# Altium integrated library Analog Devices Data Converters Digital-to-Analog Converters.IntLib: 2231 symbols (part 15 of 181)
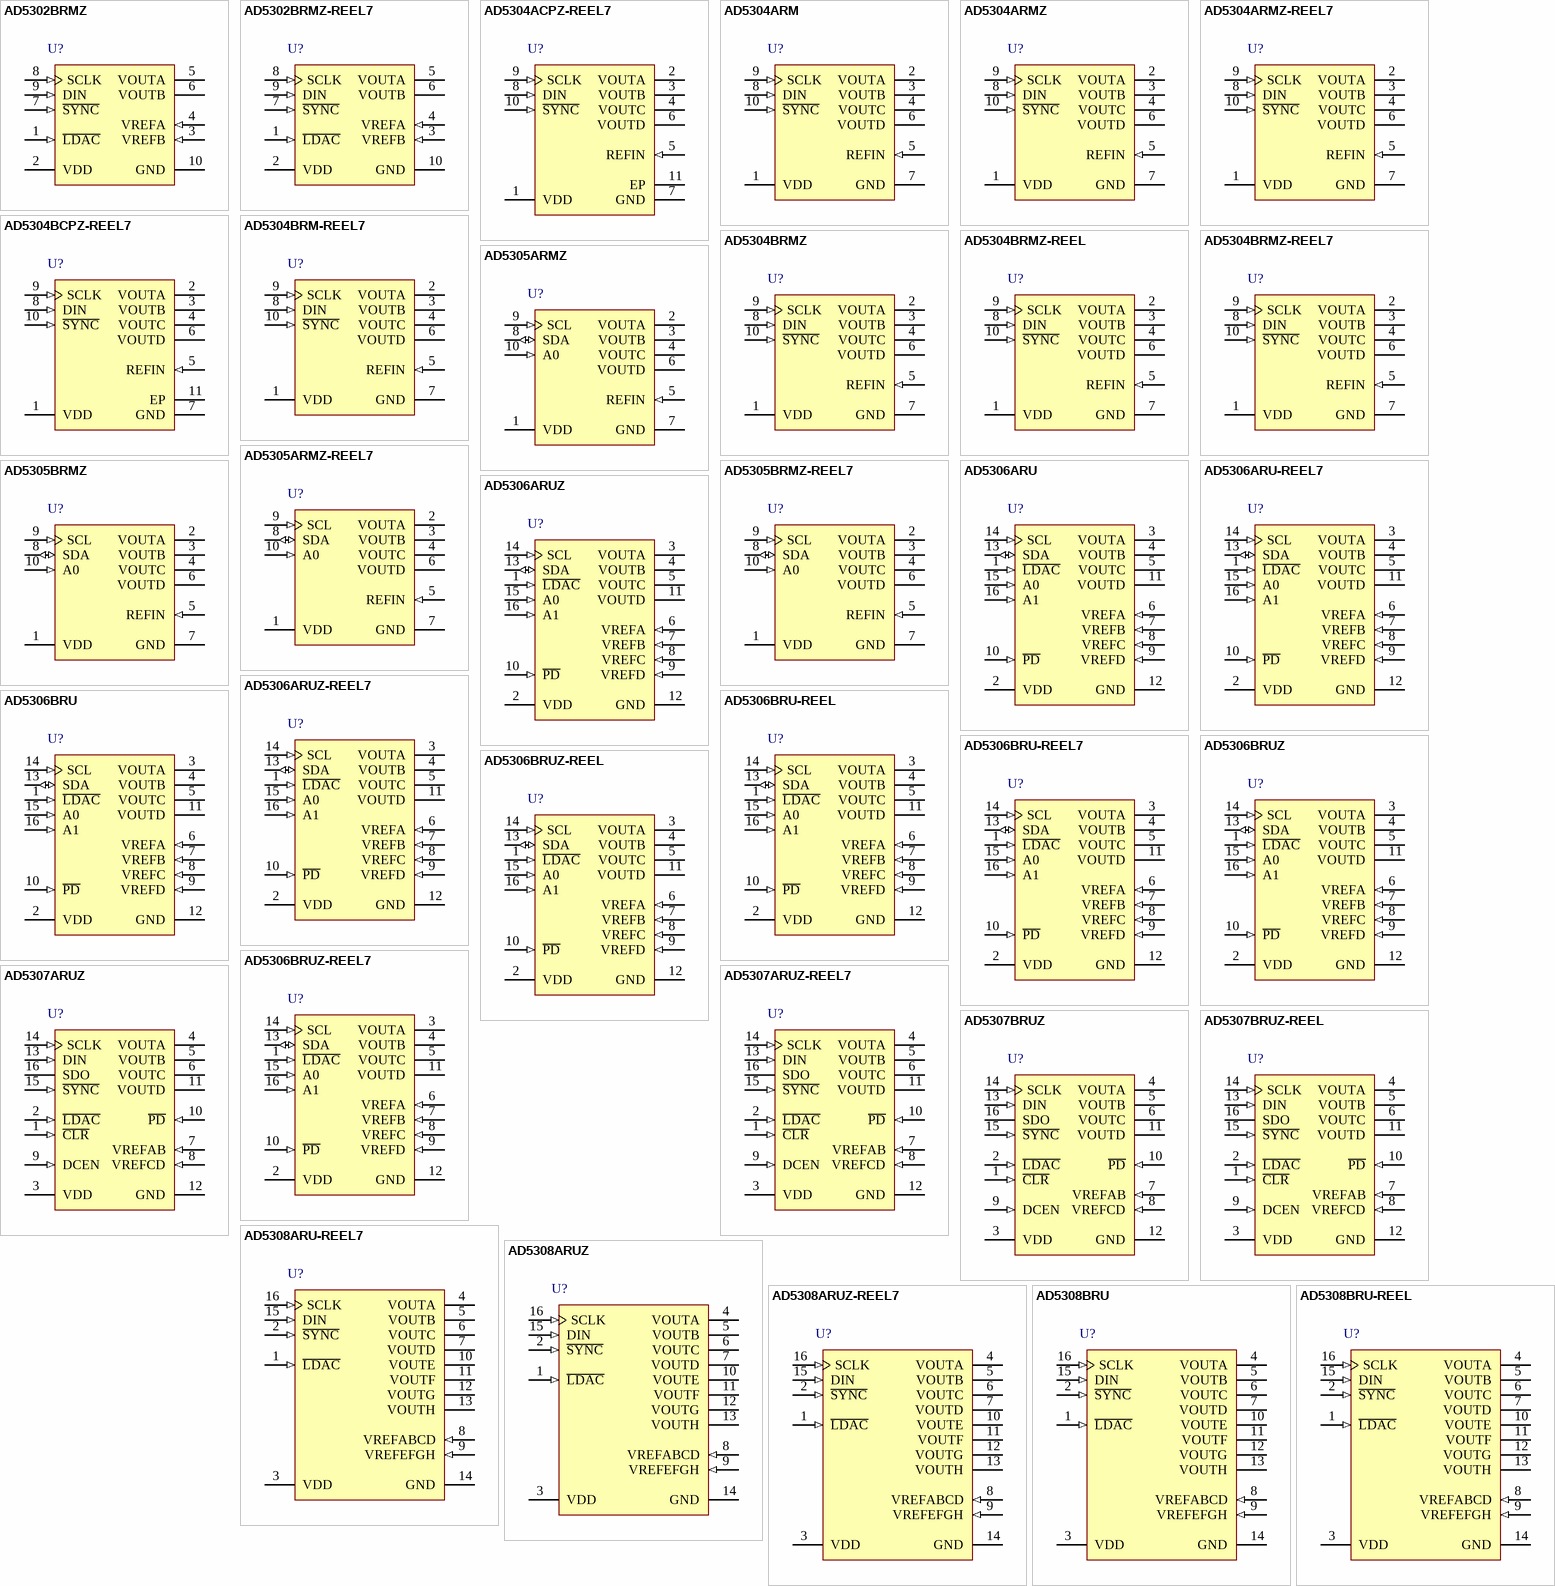
[diagram p128: symbols AD5302BRMZ to AD5308BRU-REEL]

## AD5308ARUZ-REEL7
designator U?
Octal 8-Bit Voltage Output Digital-to-Analog Converter, 2.5 to 5.5 V, -40 to +125 degC, RU-16, Pb-Free, Reel; Generic Part Number: AD5308; Manufacturer: Analog Devices; PartNumber: AD5308ARUZ-REEL7; # DAC Outputs: 8; Max V+: 5.5V; Op Pwr Diss: 5mW; Settling Time: 6µs; Single Supply: Yes; DatasheetVersion: Rev.F; PackageVersion: Nov-2002; PackageReference: RU-16; PackageDescription: 16-Lead Thin Shrink Small Outline Package [TSSOP]; Supplier 1: Digi-Key; Supplier Part Number 1: AD5308ARUZ-REEL7TR-ND; Supplier 2: Digi-Key; Supplier Part Number 2: AD5308ARUZ-REEL7CT-ND; Supplier 3: Digi-Key; Supplier Part Number 3: AD5308ARUZ-REEL7DKR-ND; Supplier 4: Newark; Supplier Part Number 4: 59K3884; Supplier 5: Mouser; Supplier Part Number 5: 584-AD5308ARUZ-R7; Packing: Reel; Resolution (Bits): 8; RoHS: Y; Mounting Technology: Surface Mount; Code_JEDEC: MO-153-AB; ComponentLink1Description: Manufacturer URL; ComponentLink1URL: http://www.analog.com/en/index.html; ComponentLink2Description: Datasheet; ComponentLink2URL: http://www.analog.com/static/imported-files/data_sheets/AD5308_5318_5328.pdf; ComponentLink3Description: Package Specification; ComponentLink3URL: http://www.analog.com/static/imported-files/packages/36244347913743854010197452789RU16.pdf; ComponentLink4Description: Product URL; ComponentLink4URL: http://www.analog.com/en/digital-to-analog-converters/da-converters/ad5308/products/product.html
footprint RU-16_N (TSOP, 16-Leads, Body 5x4.4mm, Pitch 0.65mm, IPC Medium Density)
footprint RU-16_L (TSOP, 16-Leads, Body 5x4.4mm, Pitch 0.65mm, IPC High Density)
footprint RU-16_M (TSOP, 16-Leads, Body 5x4.4mm, Pitch 0.65mm, IPC Low Density)
pins: 1 ~{LDAC} (in) "This active low control input transfers the contents of the input registers to their respective DAC registers. Pulsing this pin low allows any or all DAC registers to be updated if the input registers have new data. This (See Datasheet)", 2 ~{SYNC} (in) "Active Low Control Input. This is the frame synchronization signal for the input data. When S\Y\N\C\ goes low, it powers on the SCLK and DIN buffers and enables the input shift register. Data is transferred in on the falling (See Datasheet)", 3 VDD (power) "Power Supply Input. These parts can be operated from 2.5 V to 5.5 V, and the supply should be decoupled with a 10 uF capacitor in parallel with a 0.1 uF capacitor to GND.", 4 VOUTA (hiz) "Buffered Analog Output Voltage from DAC A. The output amplifier has rail-to-rail operation.", 5 VOUTB (hiz) "Buffered Analog Output Voltage from DAC B. The output amplifier has rail-to-rail operation.", 6 VOUTC (hiz) "Buffered Analog Output Voltage from DAC C. The output amplifier has rail-to-rail operation.", 7 VOUTD (hiz) "Buffered Analog Output Voltage from DAC D. The output amplifier has rail-to-rail operation.", 8 VREFABCD (in) "Reference Input Pin for DACs A, B, C, and D. It can be configured as a buffered, unbuffered, or VDD input to the four DACs, depending on the state of the BUF and VDD control bits. It has an input range from 0.25 V to VDD in (See Datasheet)", 9 VREFEFGH (in) "Reference Input Pin for DACs E, F, G, and H. It can be configured as a buffered, unbuffered, or VDD input to the four DACs, depending on the state of the BUF and VDD control bits. It has an input range from 0.25 V to VDD in (See Datasheet)", 10 VOUTE (hiz) "Buffered Analog Output Voltage from DAC E. The output amplifier has rail-to-rail operation.", 11 VOUTF (hiz) "Buffered Analog Output Voltage from DAC F. The output amplifier has rail-to-rail operation.", 12 VOUTG (hiz) "Buffered Analog Output Voltage from DAC G. The output amplifier has rail-to-rail operation.", 13 VOUTH (hiz) "Buffered Analog Output Voltage from DAC H. The output amplifier has rail-to-rail operation.", 14 GND (power) "Ground Reference Point for All Circuitry on the Part.", 15 DIN (in) "Serial Data Input. This device has a 16-bit shift register. Data is clocked into the register on the falling edge of the serial clock input. The DIN input buffer is powered down after each write cycle.", 16 SCLK (in) "Serial Clock Input. Data is clocked into the input shift register on the falling edge of the serial clock input. Data can be transferred at rates up to 30 MHz. The SCLK input buffer is powered down after each write cycle."

## AD5308BRU
designator U?
Octal 8-Bit Voltage Output Digital-to-Analog Converter, 2.5 to 5.5 V, -40 to +125 degC, RU-16, Tube; Generic Part Number: AD5308; Manufacturer: Analog Devices; PartNumber: AD5308BRU; # DAC Outputs: 8; Max V+: 5.5V; Op Pwr Diss: 5mW; Settling Time: 6µs; Single Supply: Yes; DatasheetVersion: Rev.F; PackageVersion: Nov-2002; PackageReference: RU-16; PackageDescription: 16-Lead Thin Shrink Small Outline Package [TSSOP]; Supplier 1: Digi-Key; Supplier Part Number 1: AD5308BRU-ND; Supplier 2: Mouser; Supplier Part Number 2: 584-AD5308BRU; Packing: Tube; Resolution (Bits): 8; RoHS: N; Mounting Technology: Surface Mount; Code_JEDEC: MO-153-AB; ComponentLink1Description: Manufacturer URL; ComponentLink1URL: http://www.analog.com/en/index.html; ComponentLink2Description: Datasheet; ComponentLink2URL: http://www.analog.com/static/imported-files/data_sheets/AD5308_5318_5328.pdf; ComponentLink3Description: Package Specification; ComponentLink3URL: http://www.analog.com/static/imported-files/packages/36244347913743854010197452789RU16.pdf; ComponentLink4Description: Product URL; ComponentLink4URL: http://www.analog.com/en/digital-to-analog-converters/da-converters/ad5308/products/product.html
footprint RU-16_N (TSOP, 16-Leads, Body 5x4.4mm, Pitch 0.65mm, IPC Medium Density)
footprint RU-16_L (TSOP, 16-Leads, Body 5x4.4mm, Pitch 0.65mm, IPC High Density)
footprint RU-16_M (TSOP, 16-Leads, Body 5x4.4mm, Pitch 0.65mm, IPC Low Density)
pins: 1 ~{LDAC} (in) "This active low control input transfers the contents of the input registers to their respective DAC registers. Pulsing this pin low allows any or all DAC registers to be updated if the input registers have new data. This (See Datasheet)", 2 ~{SYNC} (in) "Active Low Control Input. This is the frame synchronization signal for the input data. When S\Y\N\C\ goes low, it powers on the SCLK and DIN buffers and enables the input shift register. Data is transferred in on the falling (See Datasheet)", 3 VDD (power) "Power Supply Input. These parts can be operated from 2.5 V to 5.5 V, and the supply should be decoupled with a 10 uF capacitor in parallel with a 0.1 uF capacitor to GND.", 4 VOUTA (hiz) "Buffered Analog Output Voltage from DAC A. The output amplifier has rail-to-rail operation.", 5 VOUTB (hiz) "Buffered Analog Output Voltage from DAC B. The output amplifier has rail-to-rail operation.", 6 VOUTC (hiz) "Buffered Analog Output Voltage from DAC C. The output amplifier has rail-to-rail operation.", 7 VOUTD (hiz) "Buffered Analog Output Voltage from DAC D. The output amplifier has rail-to-rail operation.", 8 VREFABCD (in) "Reference Input Pin for DACs A, B, C, and D. It can be configured as a buffered, unbuffered, or VDD input to the four DACs, depending on the state of the BUF and VDD control bits. It has an input range from 0.25 V to VDD in (See Datasheet)", 9 VREFEFGH (in) "Reference Input Pin for DACs E, F, G, and H. It can be configured as a buffered, unbuffered, or VDD input to the four DACs, depending on the state of the BUF and VDD control bits. It has an input range from 0.25 V to VDD in (See Datasheet)", 10 VOUTE (hiz) "Buffered Analog Output Voltage from DAC E. The output amplifier has rail-to-rail operation.", 11 VOUTF (hiz) "Buffered Analog Output Voltage from DAC F. The output amplifier has rail-to-rail operation.", 12 VOUTG (hiz) "Buffered Analog Output Voltage from DAC G. The output amplifier has rail-to-rail operation.", 13 VOUTH (hiz) "Buffered Analog Output Voltage from DAC H. The output amplifier has rail-to-rail operation.", 14 GND (power) "Ground Reference Point for All Circuitry on the Part.", 15 DIN (in) "Serial Data Input. This device has a 16-bit shift register. Data is clocked into the register on the falling edge of the serial clock input. The DIN input buffer is powered down after each write cycle.", 16 SCLK (in) "Serial Clock Input. Data is clocked into the input shift register on the falling edge of the serial clock input. Data can be transferred at rates up to 30 MHz. The SCLK input buffer is powered down after each write cycle."

## AD5308BRU-REEL
designator U?
Octal 8-Bit Voltage Output Digital-to-Analog Converter, 2.5 to 5.5 V, -40 to +125 degC, RU-16, Reel; Generic Part Number: AD5308; Manufacturer: Analog Devices; PartNumber: AD5308BRU-REEL; # DAC Outputs: 8; Max V+: 5.5V; Op Pwr Diss: 5mW; Settling Time: 6µs; Single Supply: Yes; DatasheetVersion: Rev.F; PackageVersion: Nov-2002; PackageReference: RU-16; PackageDescription: 16-Lead Thin Shrink Small Outline Package [TSSOP]; Supplier 1: Digi-Key; Supplier Part Number 1: AD5308BRU-REEL-ND; Supplier 2: Mouser; Supplier Part Number 2: 584-AD5308BRU-R; Packing: Reel; Resolution (Bits): 8; RoHS: N; Mounting Technology: Surface Mount; Code_JEDEC: MO-153-AB; ComponentLink1Description: Manufacturer URL; ComponentLink1URL: http://www.analog.com/en/index.html; ComponentLink2Description: Datasheet; ComponentLink2URL: http://www.analog.com/static/imported-files/data_sheets/AD5308_5318_5328.pdf; ComponentLink3Description: Package Specification; ComponentLink3URL: http://www.analog.com/static/imported-files/packages/36244347913743854010197452789RU16.pdf; ComponentLink4Description: Product URL; ComponentLink4URL: http://www.analog.com/en/digital-to-analog-converters/da-converters/ad5308/products/product.html
footprint RU-16_N (TSOP, 16-Leads, Body 5x4.4mm, Pitch 0.65mm, IPC Medium Density)
footprint RU-16_L (TSOP, 16-Leads, Body 5x4.4mm, Pitch 0.65mm, IPC High Density)
footprint RU-16_M (TSOP, 16-Leads, Body 5x4.4mm, Pitch 0.65mm, IPC Low Density)
pins: 1 ~{LDAC} (in) "This active low control input transfers the contents of the input registers to their respective DAC registers. Pulsing this pin low allows any or all DAC registers to be updated if the input registers have new data. This (See Datasheet)", 2 ~{SYNC} (in) "Active Low Control Input. This is the frame synchronization signal for the input data. When S\Y\N\C\ goes low, it powers on the SCLK and DIN buffers and enables the input shift register. Data is transferred in on the falling (See Datasheet)", 3 VDD (power) "Power Supply Input. These parts can be operated from 2.5 V to 5.5 V, and the supply should be decoupled with a 10 uF capacitor in parallel with a 0.1 uF capacitor to GND.", 4 VOUTA (hiz) "Buffered Analog Output Voltage from DAC A. The output amplifier has rail-to-rail operation.", 5 VOUTB (hiz) "Buffered Analog Output Voltage from DAC B. The output amplifier has rail-to-rail operation.", 6 VOUTC (hiz) "Buffered Analog Output Voltage from DAC C. The output amplifier has rail-to-rail operation.", 7 VOUTD (hiz) "Buffered Analog Output Voltage from DAC D. The output amplifier has rail-to-rail operation.", 8 VREFABCD (in) "Reference Input Pin for DACs A, B, C, and D. It can be configured as a buffered, unbuffered, or VDD input to the four DACs, depending on the state of the BUF and VDD control bits. It has an input range from 0.25 V to VDD in (See Datasheet)", 9 VREFEFGH (in) "Reference Input Pin for DACs E, F, G, and H. It can be configured as a buffered, unbuffered, or VDD input to the four DACs, depending on the state of the BUF and VDD control bits. It has an input range from 0.25 V to VDD in (See Datasheet)", 10 VOUTE (hiz) "Buffered Analog Output Voltage from DAC E. The output amplifier has rail-to-rail operation.", 11 VOUTF (hiz) "Buffered Analog Output Voltage from DAC F. The output amplifier has rail-to-rail operation.", 12 VOUTG (hiz) "Buffered Analog Output Voltage from DAC G. The output amplifier has rail-to-rail operation.", 13 VOUTH (hiz) "Buffered Analog Output Voltage from DAC H. The output amplifier has rail-to-rail operation.", 14 GND (power) "Ground Reference Point for All Circuitry on the Part.", 15 DIN (in) "Serial Data Input. This device has a 16-bit shift register. Data is clocked into the register on the falling edge of the serial clock input. The DIN input buffer is powered down after each write cycle.", 16 SCLK (in) "Serial Clock Input. Data is clocked into the input shift register on the falling edge of the serial clock input. Data can be transferred at rates up to 30 MHz. The SCLK input buffer is powered down after each write cycle."

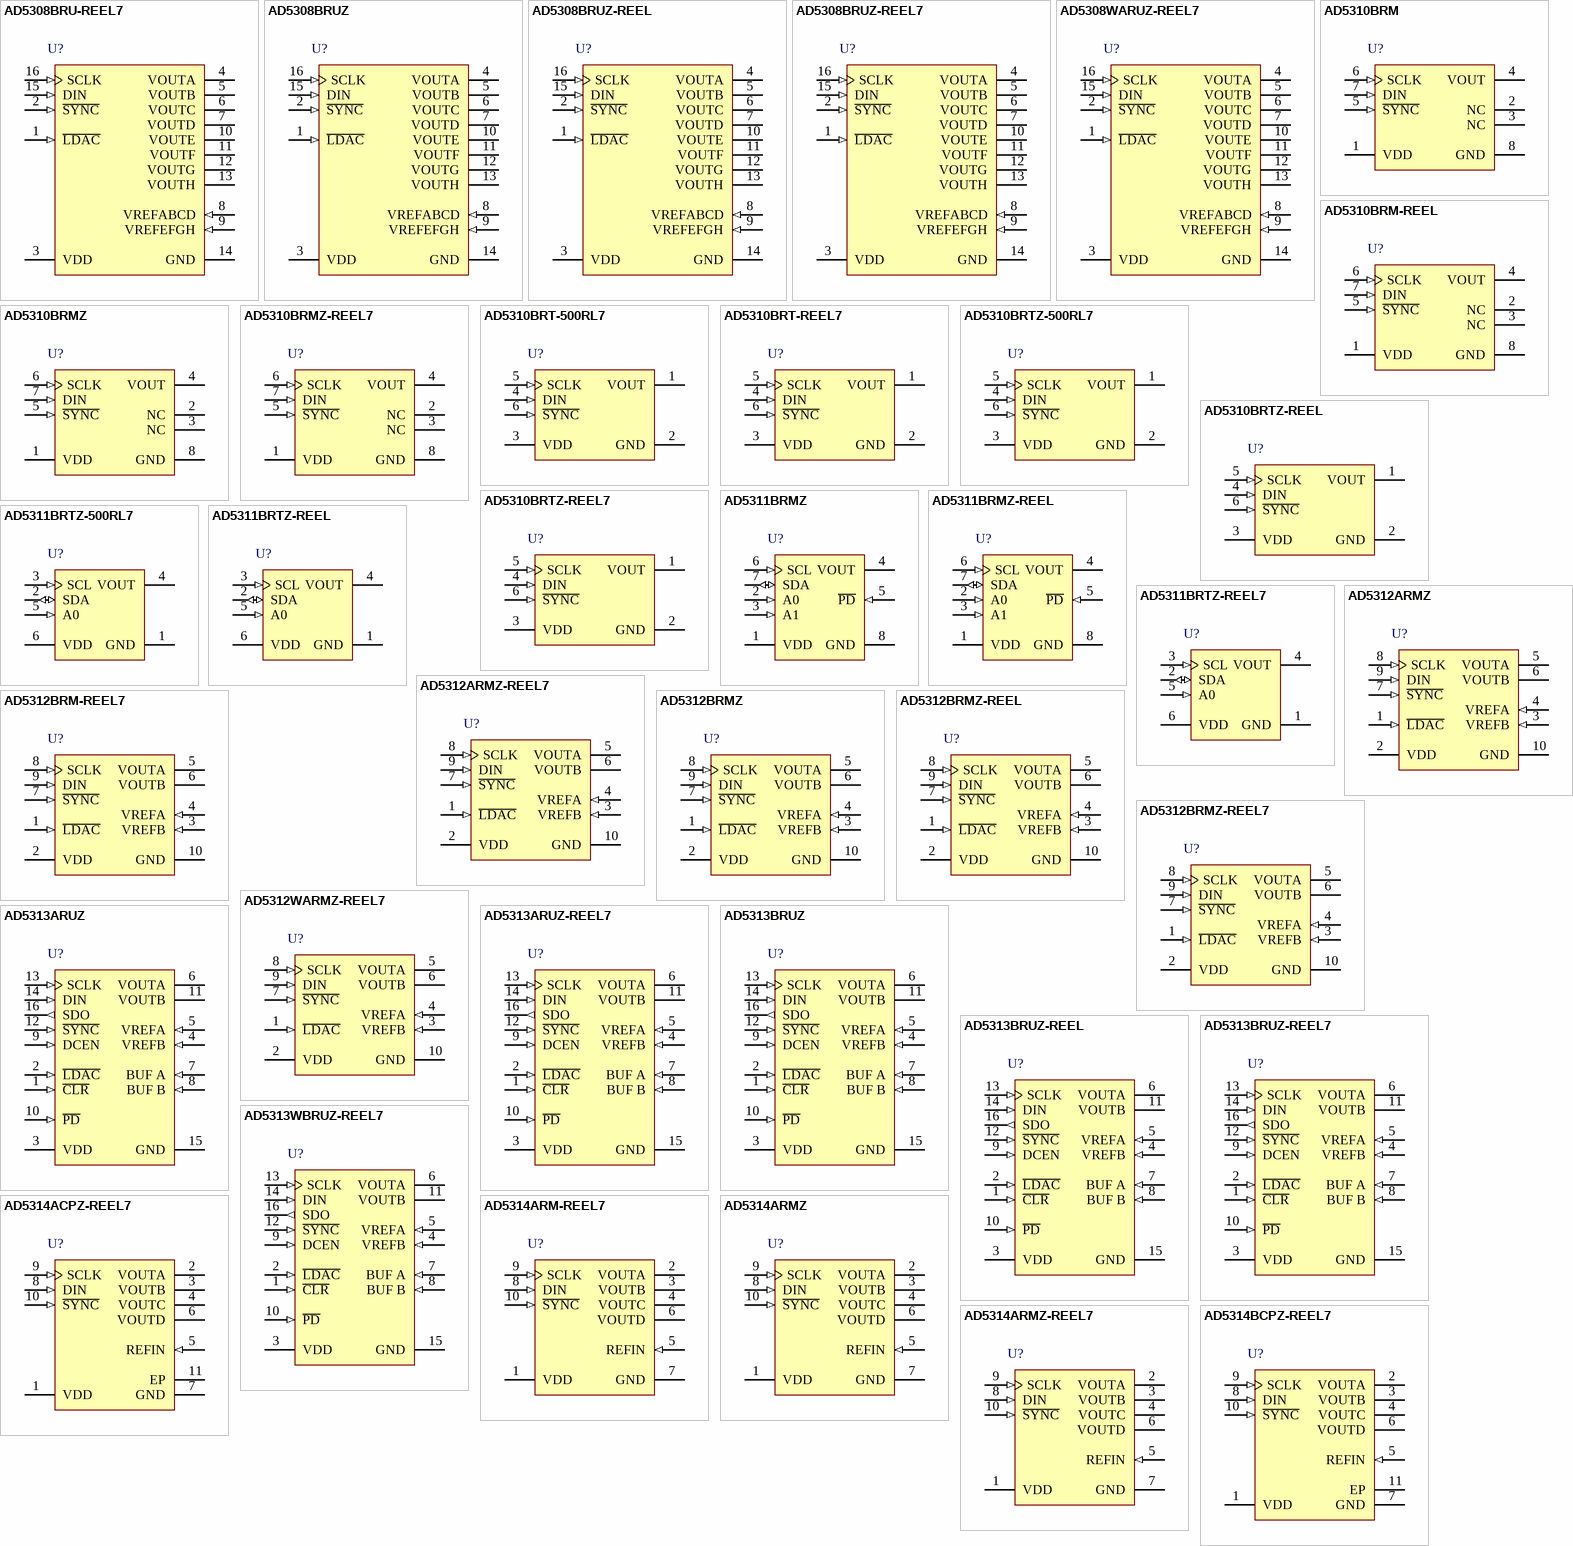
[diagram p11: symbols AD5308BRU-REEL7 to AD5314BCPZ-REEL7]

## AD5308BRU-REEL7
designator U?
Octal 8-Bit Voltage Output Digital-to-Analog Converter, 2.5 to 5.5 V, -40 to +125 degC, RU-16, Reel; Generic Part Number: AD5308; Manufacturer: Analog Devices; PartNumber: AD5308BRU-REEL7; # DAC Outputs: 8; Max V+: 5.5V; Op Pwr Diss: 5mW; Settling Time: 6µs; Single Supply: Yes; DatasheetVersion: Rev.F; PackageVersion: Nov-2002; PackageReference: RU-16; PackageDescription: 16-Lead Thin Shrink Small Outline Package [TSSOP]; Supplier 1: Digi-Key; Supplier Part Number 1: AD5308BRU-REEL7-ND; Supplier 2: Mouser; Supplier Part Number 2: 584-AD5308BRU-R7; Packing: Reel; Resolution (Bits): 8; RoHS: N; Mounting Technology: Surface Mount; Code_JEDEC: MO-153-AB; ComponentLink1Description: Manufacturer URL; ComponentLink1URL: http://www.analog.com/en/index.html; ComponentLink2Description: Datasheet; ComponentLink2URL: http://www.analog.com/static/imported-files/data_sheets/AD5308_5318_5328.pdf; ComponentLink3Description: Package Specification; ComponentLink3URL: http://www.analog.com/static/imported-files/packages/36244347913743854010197452789RU16.pdf; ComponentLink4Description: Product URL; ComponentLink4URL: http://www.analog.com/en/digital-to-analog-converters/da-converters/ad5308/products/product.html
footprint RU-16_N (TSOP, 16-Leads, Body 5x4.4mm, Pitch 0.65mm, IPC Medium Density)
footprint RU-16_L (TSOP, 16-Leads, Body 5x4.4mm, Pitch 0.65mm, IPC High Density)
footprint RU-16_M (TSOP, 16-Leads, Body 5x4.4mm, Pitch 0.65mm, IPC Low Density)
pins: 1 ~{LDAC} (in) "This active low control input transfers the contents of the input registers to their respective DAC registers. Pulsing this pin low allows any or all DAC registers to be updated if the input registers have new data. This (See Datasheet)", 2 ~{SYNC} (in) "Active Low Control Input. This is the frame synchronization signal for the input data. When S\Y\N\C\ goes low, it powers on the SCLK and DIN buffers and enables the input shift register. Data is transferred in on the falling (See Datasheet)", 3 VDD (power) "Power Supply Input. These parts can be operated from 2.5 V to 5.5 V, and the supply should be decoupled with a 10 uF capacitor in parallel with a 0.1 uF capacitor to GND.", 4 VOUTA (hiz) "Buffered Analog Output Voltage from DAC A. The output amplifier has rail-to-rail operation.", 5 VOUTB (hiz) "Buffered Analog Output Voltage from DAC B. The output amplifier has rail-to-rail operation.", 6 VOUTC (hiz) "Buffered Analog Output Voltage from DAC C. The output amplifier has rail-to-rail operation.", 7 VOUTD (hiz) "Buffered Analog Output Voltage from DAC D. The output amplifier has rail-to-rail operation.", 8 VREFABCD (in) "Reference Input Pin for DACs A, B, C, and D. It can be configured as a buffered, unbuffered, or VDD input to the four DACs, depending on the state of the BUF and VDD control bits. It has an input range from 0.25 V to VDD in (See Datasheet)", 9 VREFEFGH (in) "Reference Input Pin for DACs E, F, G, and H. It can be configured as a buffered, unbuffered, or VDD input to the four DACs, depending on the state of the BUF and VDD control bits. It has an input range from 0.25 V to VDD in (See Datasheet)", 10 VOUTE (hiz) "Buffered Analog Output Voltage from DAC E. The output amplifier has rail-to-rail operation.", 11 VOUTF (hiz) "Buffered Analog Output Voltage from DAC F. The output amplifier has rail-to-rail operation.", 12 VOUTG (hiz) "Buffered Analog Output Voltage from DAC G. The output amplifier has rail-to-rail operation.", 13 VOUTH (hiz) "Buffered Analog Output Voltage from DAC H. The output amplifier has rail-to-rail operation.", 14 GND (power) "Ground Reference Point for All Circuitry on the Part.", 15 DIN (in) "Serial Data Input. This device has a 16-bit shift register. Data is clocked into the register on the falling edge of the serial clock input. The DIN input buffer is powered down after each write cycle.", 16 SCLK (in) "Serial Clock Input. Data is clocked into the input shift register on the falling edge of the serial clock input. Data can be transferred at rates up to 30 MHz. The SCLK input buffer is powered down after each write cycle."

## AD5308BRUZ
designator U?
Octal 8-Bit Voltage Output Digital-to-Analog Converter, 2.5 to 5.5 V, -40 to +125 degC, RU-16, Pb-Free, Tube; Generic Part Number: AD5308; Manufacturer: Analog Devices; PartNumber: AD5308BRUZ; # DAC Outputs: 8; Max V+: 5.5V; Op Pwr Diss: 5mW; Settling Time: 6µs; Single Supply: Yes; DatasheetVersion: Rev.F; PackageVersion: Nov-2002; PackageReference: RU-16; PackageDescription: 16-Lead Thin Shrink Small Outline Package [TSSOP]; Supplier 1: Digi-Key; Supplier Part Number 1: AD5308BRUZ-ND; Supplier 2: Farnell; Supplier Part Number 2: 9426337; Supplier 3: Newark; Supplier Part Number 3: 19M0804; Supplier 4: Mouser; Supplier Part Number 4: 584-AD5308BRUZ; Packing: Tube; Resolution (Bits): 8; RoHS: Y; Mounting Technology: Surface Mount; Code_JEDEC: MO-153-AB; ComponentLink1Description: Manufacturer URL; ComponentLink1URL: http://www.analog.com/en/index.html; ComponentLink2Description: Datasheet; ComponentLink2URL: http://www.analog.com/static/imported-files/data_sheets/AD5308_5318_5328.pdf; ComponentLink3Description: Package Specification; ComponentLink3URL: http://www.analog.com/static/imported-files/packages/36244347913743854010197452789RU16.pdf; ComponentLink4Description: Product URL; ComponentLink4URL: http://www.analog.com/en/digital-to-analog-converters/da-converters/ad5308/products/product.html
footprint RU-16_N (TSOP, 16-Leads, Body 5x4.4mm, Pitch 0.65mm, IPC Medium Density)
footprint RU-16_L (TSOP, 16-Leads, Body 5x4.4mm, Pitch 0.65mm, IPC High Density)
footprint RU-16_M (TSOP, 16-Leads, Body 5x4.4mm, Pitch 0.65mm, IPC Low Density)
pins: 1 ~{LDAC} (in) "This active low control input transfers the contents of the input registers to their respective DAC registers. Pulsing this pin low allows any or all DAC registers to be updated if the input registers have new data. This (See Datasheet)", 2 ~{SYNC} (in) "Active Low Control Input. This is the frame synchronization signal for the input data. When S\Y\N\C\ goes low, it powers on the SCLK and DIN buffers and enables the input shift register. Data is transferred in on the falling (See Datasheet)", 3 VDD (power) "Power Supply Input. These parts can be operated from 2.5 V to 5.5 V, and the supply should be decoupled with a 10 uF capacitor in parallel with a 0.1 uF capacitor to GND.", 4 VOUTA (hiz) "Buffered Analog Output Voltage from DAC A. The output amplifier has rail-to-rail operation.", 5 VOUTB (hiz) "Buffered Analog Output Voltage from DAC B. The output amplifier has rail-to-rail operation.", 6 VOUTC (hiz) "Buffered Analog Output Voltage from DAC C. The output amplifier has rail-to-rail operation.", 7 VOUTD (hiz) "Buffered Analog Output Voltage from DAC D. The output amplifier has rail-to-rail operation.", 8 VREFABCD (in) "Reference Input Pin for DACs A, B, C, and D. It can be configured as a buffered, unbuffered, or VDD input to the four DACs, depending on the state of the BUF and VDD control bits. It has an input range from 0.25 V to VDD in (See Datasheet)", 9 VREFEFGH (in) "Reference Input Pin for DACs E, F, G, and H. It can be configured as a buffered, unbuffered, or VDD input to the four DACs, depending on the state of the BUF and VDD control bits. It has an input range from 0.25 V to VDD in (See Datasheet)", 10 VOUTE (hiz) "Buffered Analog Output Voltage from DAC E. The output amplifier has rail-to-rail operation.", 11 VOUTF (hiz) "Buffered Analog Output Voltage from DAC F. The output amplifier has rail-to-rail operation.", 12 VOUTG (hiz) "Buffered Analog Output Voltage from DAC G. The output amplifier has rail-to-rail operation.", 13 VOUTH (hiz) "Buffered Analog Output Voltage from DAC H. The output amplifier has rail-to-rail operation.", 14 GND (power) "Ground Reference Point for All Circuitry on the Part.", 15 DIN (in) "Serial Data Input. This device has a 16-bit shift register. Data is clocked into the register on the falling edge of the serial clock input. The DIN input buffer is powered down after each write cycle.", 16 SCLK (in) "Serial Clock Input. Data is clocked into the input shift register on the falling edge of the serial clock input. Data can be transferred at rates up to 30 MHz. The SCLK input buffer is powered down after each write cycle."

## AD5308BRUZ-REEL
designator U?
Octal 8-Bit Voltage Output Digital-to-Analog Converter, 2.5 to 5.5 V, -40 to +125 degC, RU-16, Pb-Free, Reel; Generic Part Number: AD5308; Manufacturer: Analog Devices; PartNumber: AD5308BRUZ-REEL; # DAC Outputs: 8; Max V+: 5.5V; Op Pwr Diss: 5mW; Settling Time: 6µs; Single Supply: Yes; DatasheetVersion: Rev.F; PackageVersion: Nov-2002; PackageReference: RU-16; PackageDescription: 16-Lead Thin Shrink Small Outline Package [TSSOP]; Supplier 1: Digi-Key; Supplier Part Number 1: AD5308BRUZ-REEL-ND; Supplier 2: Mouser; Supplier Part Number 2: 584-AD5308BRUZ-R; Packing: Reel; Resolution (Bits): 8; RoHS: Y; Mounting Technology: Surface Mount; Code_JEDEC: MO-153-AB; ComponentLink1Description: Manufacturer URL; ComponentLink1URL: http://www.analog.com/en/index.html; ComponentLink2Description: Datasheet; ComponentLink2URL: http://www.analog.com/static/imported-files/data_sheets/AD5308_5318_5328.pdf; ComponentLink3Description: Package Specification; ComponentLink3URL: http://www.analog.com/static/imported-files/packages/36244347913743854010197452789RU16.pdf; ComponentLink4Description: Product URL; ComponentLink4URL: http://www.analog.com/en/digital-to-analog-converters/da-converters/ad5308/products/product.html
footprint RU-16_N (TSOP, 16-Leads, Body 5x4.4mm, Pitch 0.65mm, IPC Medium Density)
footprint RU-16_L (TSOP, 16-Leads, Body 5x4.4mm, Pitch 0.65mm, IPC High Density)
footprint RU-16_M (TSOP, 16-Leads, Body 5x4.4mm, Pitch 0.65mm, IPC Low Density)
pins: 1 ~{LDAC} (in) "This active low control input transfers the contents of the input registers to their respective DAC registers. Pulsing this pin low allows any or all DAC registers to be updated if the input registers have new data. This (See Datasheet)", 2 ~{SYNC} (in) "Active Low Control Input. This is the frame synchronization signal for the input data. When S\Y\N\C\ goes low, it powers on the SCLK and DIN buffers and enables the input shift register. Data is transferred in on the falling (See Datasheet)", 3 VDD (power) "Power Supply Input. These parts can be operated from 2.5 V to 5.5 V, and the supply should be decoupled with a 10 uF capacitor in parallel with a 0.1 uF capacitor to GND.", 4 VOUTA (hiz) "Buffered Analog Output Voltage from DAC A. The output amplifier has rail-to-rail operation.", 5 VOUTB (hiz) "Buffered Analog Output Voltage from DAC B. The output amplifier has rail-to-rail operation.", 6 VOUTC (hiz) "Buffered Analog Output Voltage from DAC C. The output amplifier has rail-to-rail operation.", 7 VOUTD (hiz) "Buffered Analog Output Voltage from DAC D. The output amplifier has rail-to-rail operation.", 8 VREFABCD (in) "Reference Input Pin for DACs A, B, C, and D. It can be configured as a buffered, unbuffered, or VDD input to the four DACs, depending on the state of the BUF and VDD control bits. It has an input range from 0.25 V to VDD in (See Datasheet)", 9 VREFEFGH (in) "Reference Input Pin for DACs E, F, G, and H. It can be configured as a buffered, unbuffered, or VDD input to the four DACs, depending on the state of the BUF and VDD control bits. It has an input range from 0.25 V to VDD in (See Datasheet)", 10 VOUTE (hiz) "Buffered Analog Output Voltage from DAC E. The output amplifier has rail-to-rail operation.", 11 VOUTF (hiz) "Buffered Analog Output Voltage from DAC F. The output amplifier has rail-to-rail operation.", 12 VOUTG (hiz) "Buffered Analog Output Voltage from DAC G. The output amplifier has rail-to-rail operation.", 13 VOUTH (hiz) "Buffered Analog Output Voltage from DAC H. The output amplifier has rail-to-rail operation.", 14 GND (power) "Ground Reference Point for All Circuitry on the Part.", 15 DIN (in) "Serial Data Input. This device has a 16-bit shift register. Data is clocked into the register on the falling edge of the serial clock input. The DIN input buffer is powered down after each write cycle.", 16 SCLK (in) "Serial Clock Input. Data is clocked into the input shift register on the falling edge of the serial clock input. Data can be transferred at rates up to 30 MHz. The SCLK input buffer is powered down after each write cycle."

## AD5308BRUZ-REEL7
designator U?
Octal 8-Bit Voltage Output Digital-to-Analog Converter, 2.5 to 5.5 V, -40 to +125 degC, RU-16, Pb-Free, Reel; Generic Part Number: AD5308; Manufacturer: Analog Devices; PartNumber: AD5308BRUZ-REEL7; # DAC Outputs: 8; Max V+: 5.5V; Op Pwr Diss: 5mW; Settling Time: 6µs; Single Supply: Yes; DatasheetVersion: Rev.F; PackageVersion: Nov-2002; PackageReference: RU-16; PackageDescription: 16-Lead Thin Shrink Small Outline Package [TSSOP]; Supplier 1: Digi-Key; Supplier Part Number 1: AD5308BRUZ-REEL7-ND; Supplier 2: Newark; Supplier Part Number 2: 12M8511; Supplier 3: Mouser; Supplier Part Number 3: 584-AD5308BRUZ-R7; Packing: Reel; Resolution (Bits): 8; RoHS: Y; Mounting Technology: Surface Mount; Code_JEDEC: MO-153-AB; ComponentLink1Description: Manufacturer URL; ComponentLink1URL: http://www.analog.com/en/index.html; ComponentLink2Description: Datasheet; ComponentLink2URL: http://www.analog.com/static/imported-files/data_sheets/AD5308_5318_5328.pdf; ComponentLink3Description: Package Specification; ComponentLink3URL: http://www.analog.com/static/imported-files/packages/36244347913743854010197452789RU16.pdf; ComponentLink4Description: Product URL; ComponentLink4URL: http://www.analog.com/en/digital-to-analog-converters/da-converters/ad5308/products/product.html
footprint RU-16_N (TSOP, 16-Leads, Body 5x4.4mm, Pitch 0.65mm, IPC Medium Density)
footprint RU-16_L (TSOP, 16-Leads, Body 5x4.4mm, Pitch 0.65mm, IPC High Density)
footprint RU-16_M (TSOP, 16-Leads, Body 5x4.4mm, Pitch 0.65mm, IPC Low Density)
pins: 1 ~{LDAC} (in) "This active low control input transfers the contents of the input registers to their respective DAC registers. Pulsing this pin low allows any or all DAC registers to be updated if the input registers have new data. This (See Datasheet)", 2 ~{SYNC} (in) "Active Low Control Input. This is the frame synchronization signal for the input data. When S\Y\N\C\ goes low, it powers on the SCLK and DIN buffers and enables the input shift register. Data is transferred in on the falling (See Datasheet)", 3 VDD (power) "Power Supply Input. These parts can be operated from 2.5 V to 5.5 V, and the supply should be decoupled with a 10 uF capacitor in parallel with a 0.1 uF capacitor to GND.", 4 VOUTA (hiz) "Buffered Analog Output Voltage from DAC A. The output amplifier has rail-to-rail operation.", 5 VOUTB (hiz) "Buffered Analog Output Voltage from DAC B. The output amplifier has rail-to-rail operation.", 6 VOUTC (hiz) "Buffered Analog Output Voltage from DAC C. The output amplifier has rail-to-rail operation.", 7 VOUTD (hiz) "Buffered Analog Output Voltage from DAC D. The output amplifier has rail-to-rail operation.", 8 VREFABCD (in) "Reference Input Pin for DACs A, B, C, and D. It can be configured as a buffered, unbuffered, or VDD input to the four DACs, depending on the state of the BUF and VDD control bits. It has an input range from 0.25 V to VDD in (See Datasheet)", 9 VREFEFGH (in) "Reference Input Pin for DACs E, F, G, and H. It can be configured as a buffered, unbuffered, or VDD input to the four DACs, depending on the state of the BUF and VDD control bits. It has an input range from 0.25 V to VDD in (See Datasheet)", 10 VOUTE (hiz) "Buffered Analog Output Voltage from DAC E. The output amplifier has rail-to-rail operation.", 11 VOUTF (hiz) "Buffered Analog Output Voltage from DAC F. The output amplifier has rail-to-rail operation.", 12 VOUTG (hiz) "Buffered Analog Output Voltage from DAC G. The output amplifier has rail-to-rail operation.", 13 VOUTH (hiz) "Buffered Analog Output Voltage from DAC H. The output amplifier has rail-to-rail operation.", 14 GND (power) "Ground Reference Point for All Circuitry on the Part.", 15 DIN (in) "Serial Data Input. This device has a 16-bit shift register. Data is clocked into the register on the falling edge of the serial clock input. The DIN input buffer is powered down after each write cycle.", 16 SCLK (in) "Serial Clock Input. Data is clocked into the input shift register on the falling edge of the serial clock input. Data can be transferred at rates up to 30 MHz. The SCLK input buffer is powered down after each write cycle."

## AD5308WARUZ-REEL7
designator U?
Octal 8-Bit Voltage Output Digital-to-Analog Converter, 2.5 to 5.5 V, -40 to +125 degC, RU-16, Pb-Free, Reel; Generic Part Number: AD5308; Manufacturer: Analog Devices; PartNumber: AD5308WARUZ-REEL7; # DAC Outputs: 8; Max V+: 5.5V; Op Pwr Diss: 5mW; Settling Time: 6µs; Single Supply: Yes; DatasheetVersion: Rev.F; PackageVersion: Nov-2002; PackageReference: RU-16; PackageDescription: 16-Lead Thin Shrink Small Outline Package [TSSOP]; Supplier 1: Digi-Key; Supplier Part Number 1: AD5308WARUZ-REEL7TR-ND; Supplier 2: Digi-Key; Supplier Part Number 2: AD5308WARUZ-REEL7CT-ND; Supplier 3: Digi-Key; Supplier Part Number 3: AD5308WARUZ-REEL7DKR-ND; Supplier 4: Mouser; Supplier Part Number 4: 584-AD5308WARUZ-R7; Packing: Reel; Resolution (Bits): 8; RoHS: Y; Mounting Technology: Surface Mount; Code_JEDEC: MO-153-AB; ComponentLink1Description: Manufacturer URL; ComponentLink1URL: http://www.analog.com/en/index.html; ComponentLink2Description: Datasheet; ComponentLink2URL: http://www.analog.com/static/imported-files/data_sheets/AD5308_5318_5328.pdf; ComponentLink3Description: Package Specification; ComponentLink3URL: http://www.analog.com/static/imported-files/packages/36244347913743854010197452789RU16.pdf; ComponentLink4Description: Product URL; ComponentLink4URL: http://www.analog.com/en/digital-to-analog-converters/da-converters/ad5308/products/product.html
footprint RU-16_N (TSOP, 16-Leads, Body 5x4.4mm, Pitch 0.65mm, IPC Medium Density)
footprint RU-16_L (TSOP, 16-Leads, Body 5x4.4mm, Pitch 0.65mm, IPC High Density)
footprint RU-16_M (TSOP, 16-Leads, Body 5x4.4mm, Pitch 0.65mm, IPC Low Density)
pins: 1 ~{LDAC} (in) "This active low control input transfers the contents of the input registers to their respective DAC registers. Pulsing this pin low allows any or all DAC registers to be updated if the input registers have new data. This (See Datasheet)", 2 ~{SYNC} (in) "Active Low Control Input. This is the frame synchronization signal for the input data. When S\Y\N\C\ goes low, it powers on the SCLK and DIN buffers and enables the input shift register. Data is transferred in on the falling (See Datasheet)", 3 VDD (power) "Power Supply Input. These parts can be operated from 2.5 V to 5.5 V, and the supply should be decoupled with a 10 uF capacitor in parallel with a 0.1 uF capacitor to GND.", 4 VOUTA (hiz) "Buffered Analog Output Voltage from DAC A. The output amplifier has rail-to-rail operation.", 5 VOUTB (hiz) "Buffered Analog Output Voltage from DAC B. The output amplifier has rail-to-rail operation.", 6 VOUTC (hiz) "Buffered Analog Output Voltage from DAC C. The output amplifier has rail-to-rail operation.", 7 VOUTD (hiz) "Buffered Analog Output Voltage from DAC D. The output amplifier has rail-to-rail operation.", 8 VREFABCD (in) "Reference Input Pin for DACs A, B, C, and D. It can be configured as a buffered, unbuffered, or VDD input to the four DACs, depending on the state of the BUF and VDD control bits. It has an input range from 0.25 V to VDD in (See Datasheet)", 9 VREFEFGH (in) "Reference Input Pin for DACs E, F, G, and H. It can be configured as a buffered, unbuffered, or VDD input to the four DACs, depending on the state of the BUF and VDD control bits. It has an input range from 0.25 V to VDD in (See Datasheet)", 10 VOUTE (hiz) "Buffered Analog Output Voltage from DAC E. The output amplifier has rail-to-rail operation.", 11 VOUTF (hiz) "Buffered Analog Output Voltage from DAC F. The output amplifier has rail-to-rail operation.", 12 VOUTG (hiz) "Buffered Analog Output Voltage from DAC G. The output amplifier has rail-to-rail operation.", 13 VOUTH (hiz) "Buffered Analog Output Voltage from DAC H. The output amplifier has rail-to-rail operation.", 14 GND (power) "Ground Reference Point for All Circuitry on the Part.", 15 DIN (in) "Serial Data Input. This device has a 16-bit shift register. Data is clocked into the register on the falling edge of the serial clock input. The DIN input buffer is powered down after each write cycle.", 16 SCLK (in) "Serial Clock Input. Data is clocked into the input shift register on the falling edge of the serial clock input. Data can be transferred at rates up to 30 MHz. The SCLK input buffer is powered down after each write cycle."

## AD5310BRM
designator U?
Single 10-Bit Rail-to-Rail Output Digital-to-Analog Converter, 2.7 to 5.5 V, 140 uA, -40 to +105 degC, RM-8, Tube; Generic Part Number: AD5310; Manufacturer: Analog Devices; PartNumber: AD5310BRM; # DAC Outputs: 1; Max V+: 5.5V; Op Pwr Diss: 1.25mW; Resolution (Bits): 10; Settling Time: 6µs; Single Supply: Yes; DatasheetVersion: Rev.A; PackageVersion: Aug-2005; PackageReference: RM-8; PackageDescription: 8-Lead Mini Small Outline Package [MSOP]; Supplier 1: Digi-Key; Supplier Part Number 1: AD5310BRM-ND; Supplier 2: Mouser; Supplier Part Number 2: 584-AD5310BRM; Packing: Tube; RoHS: N; Mounting Technology: Surface Mount; Code_JEDEC: MO-187-AA; ComponentLink1Description: Manufacturer URL; ComponentLink1URL: http://www.analog.com/en/index.html; ComponentLink2Description: Datasheet; ComponentLink2URL: http://www.analog.com/static/imported-files/data_sheets/AD5310.pdf; ComponentLink3Description: Package Specification; ComponentLink3URL: http://www.analog.com/static/imported-files/packages/PKG_PDF/MSOP%28RM%29/RM_8.pdf; ComponentLink4Description: Product URL; ComponentLink4URL: http://www.analog.com/en/digital-to-analog-converters/da-converters/ad5310/products/product.html
footprint RM-8_N (TSOP, 8-Leads, Body 3x3mm, Pitch 0.65mm, IPC Medium Density)
footprint RM-8_L (TSOP, 8-Leads, Body 3x3mm, Pitch 0.65mm, IPC High Density)
footprint RM-8_M (TSOP, 8-Leads, Body 3x3mm, Pitch 0.65mm, IPC Low Density)
pins: 1 VDD (power) "Power Supply Input. These parts can be operated from +2.5 V to +5.5 V and VDD should be decoupled to GND.", 2 NC "No Connect", 3 NC "No Connect", 4 VOUT (hiz) "Analog output voltage from DAC. The output amplifier has rail-to-rail operation", 5 ~{SYNC} (in) "Level Triggered Control Input (Active Low). This is the frame synchronization signal for the input data. When S\Y\N\C\ goes low, it enables the input shift register, and data is transferred in on the falling edges of the (See Datasheet)", 6 SCLK (in) "Serial Clock Input. Data is clocked into the input shift register on the falling edge of the serial clock input. Data can be transferred at rates of up to 30 MHz.", 7 DIN (in) "Serial Data Input. This device has a 16-bit shift register. Data is clocked into the register on the falling edge of the serial clock input.", 8 GND (power) "Ground reference point for all circuitry on the part."

## AD5310BRM-REEL
designator U?
Single 10-Bit Rail-to-Rail Output Digital-to-Analog Converter, 2.7 to 5.5 V, 140 uA, -40 to +105 degC, RM-8, Reel; Generic Part Number: AD5310; Manufacturer: Analog Devices; PartNumber: AD5310BRM-REEL; # DAC Outputs: 1; Max V+: 5.5V; Op Pwr Diss: 1.25mW; Resolution (Bits): 10; Settling Time: 6µs; Single Supply: Yes; DatasheetVersion: Rev.A; PackageVersion: Aug-2005; PackageReference: RM-8; PackageDescription: 8-Lead Mini Small Outline Package [MSOP]; Supplier 1: Digi-Key; Supplier Part Number 1: AD5310BRM-REEL-ND; Supplier 2: Mouser; Supplier Part Number 2: 584-AD5310BRM-R; Packing: Reel; RoHS: N; Mounting Technology: Surface Mount; Code_JEDEC: MO-187-AA; ComponentLink1Description: Manufacturer URL; ComponentLink1URL: http://www.analog.com/en/index.html; ComponentLink2Description: Datasheet; ComponentLink2URL: http://www.analog.com/static/imported-files/data_sheets/AD5310.pdf; ComponentLink3Description: Package Specification; ComponentLink3URL: http://www.analog.com/static/imported-files/packages/PKG_PDF/MSOP%28RM%29/RM_8.pdf; ComponentLink4Description: Product URL; ComponentLink4URL: http://www.analog.com/en/digital-to-analog-converters/da-converters/ad5310/products/product.html
footprint RM-8_N (TSOP, 8-Leads, Body 3x3mm, Pitch 0.65mm, IPC Medium Density)
footprint RM-8_L (TSOP, 8-Leads, Body 3x3mm, Pitch 0.65mm, IPC High Density)
footprint RM-8_M (TSOP, 8-Leads, Body 3x3mm, Pitch 0.65mm, IPC Low Density)
pins: 1 VDD (power) "Power Supply Input. These parts can be operated from +2.5 V to +5.5 V and VDD should be decoupled to GND.", 2 NC "No Connect", 3 NC "No Connect", 4 VOUT (hiz) "Analog output voltage from DAC. The output amplifier has rail-to-rail operation", 5 ~{SYNC} (in) "Level Triggered Control Input (Active Low). This is the frame synchronization signal for the input data. When S\Y\N\C\ goes low, it enables the input shift register, and data is transferred in on the falling edges of the (See Datasheet)", 6 SCLK (in) "Serial Clock Input. Data is clocked into the input shift register on the falling edge of the serial clock input. Data can be transferred at rates of up to 30 MHz.", 7 DIN (in) "Serial Data Input. This device has a 16-bit shift register. Data is clocked into the register on the falling edge of the serial clock input.", 8 GND (power) "Ground reference point for all circuitry on the part."

## AD5310BRMZ
designator U?
Single 10-Bit Rail-to-Rail Output Digital-to-Analog Converter, 2.7 to 5.5 V, 140 uA, -40 to +105 degC, RM-8, Pb-Free, Tube; Generic Part Number: AD5310; Manufacturer: Analog Devices; PartNumber: AD5310BRMZ; # DAC Outputs: 1; Max V+: 5.5V; Op Pwr Diss: 1.25mW; Resolution (Bits): 10; Settling Time: 6µs; Single Supply: Yes; DatasheetVersion: Rev.A; PackageVersion: Aug-2005; PackageReference: RM-8; PackageDescription: 8-Lead Mini Small Outline Package [MSOP]; Supplier 1: Digi-Key; Supplier Part Number 1: AD5310BRMZ-ND; Supplier 2: Farnell; Supplier Part Number 2: 9425543; Supplier 3: Newark; Supplier Part Number 3: 19M0805; Supplier 4: Mouser; Supplier Part Number 4: 584-AD5310BRMZ; Packing: Tube; RoHS: Y; Mounting Technology: Surface Mount; Code_JEDEC: MO-187-AA; ComponentLink1Description: Manufacturer URL; ComponentLink1URL: http://www.analog.com/en/index.html; ComponentLink2Description: Datasheet; ComponentLink2URL: http://www.analog.com/static/imported-files/data_sheets/AD5310.pdf; ComponentLink3Description: Package Specification; ComponentLink3URL: http://www.analog.com/static/imported-files/packages/PKG_PDF/MSOP%28RM%29/RM_8.pdf; ComponentLink4Description: Product URL; ComponentLink4URL: http://www.analog.com/en/digital-to-analog-converters/da-converters/ad5310/products/product.html
footprint RM-8_N (TSOP, 8-Leads, Body 3x3mm, Pitch 0.65mm, IPC Medium Density)
footprint RM-8_L (TSOP, 8-Leads, Body 3x3mm, Pitch 0.65mm, IPC High Density)
footprint RM-8_M (TSOP, 8-Leads, Body 3x3mm, Pitch 0.65mm, IPC Low Density)
pins: 1 VDD (power) "Power Supply Input. These parts can be operated from +2.5 V to +5.5 V and VDD should be decoupled to GND.", 2 NC "No Connect", 3 NC "No Connect", 4 VOUT (hiz) "Analog output voltage from DAC. The output amplifier has rail-to-rail operation", 5 ~{SYNC} (in) "Level Triggered Control Input (Active Low). This is the frame synchronization signal for the input data. When S\Y\N\C\ goes low, it enables the input shift register, and data is transferred in on the falling edges of the (See Datasheet)", 6 SCLK (in) "Serial Clock Input. Data is clocked into the input shift register on the falling edge of the serial clock input. Data can be transferred at rates of up to 30 MHz.", 7 DIN (in) "Serial Data Input. This device has a 16-bit shift register. Data is clocked into the register on the falling edge of the serial clock input.", 8 GND (power) "Ground reference point for all circuitry on the part."

## AD5310BRMZ-REEL7
designator U?
Single 10-Bit Rail-to-Rail Output Digital-to-Analog Converter, 2.7 to 5.5 V, 140 uA, -40 to +105 degC, RM-8, Pb-Free, Reel; Generic Part Number: AD5310; Manufacturer: Analog Devices; PartNumber: AD5310BRMZ-REEL7; # DAC Outputs: 1; Max V+: 5.5V; Op Pwr Diss: 1.25mW; Resolution (Bits): 10; Settling Time: 6µs; Single Supply: Yes; DatasheetVersion: Rev.A; PackageVersion: Aug-2005; PackageReference: RM-8; PackageDescription: 8-Lead Mini Small Outline Package [MSOP]; Supplier 1: Digi-Key; Supplier Part Number 1: AD5310BRMZ-REEL7-ND; Supplier 2: Newark; Supplier Part Number 2: 59K3889; Supplier 3: Mouser; Supplier Part Number 3: 584-AD5310BRMZ-R7; Packing: Reel; RoHS: Y; Mounting Technology: Surface Mount; Code_JEDEC: MO-187-AA; ComponentLink1Description: Manufacturer URL; ComponentLink1URL: http://www.analog.com/en/index.html; ComponentLink2Description: Datasheet; ComponentLink2URL: http://www.analog.com/static/imported-files/data_sheets/AD5310.pdf; ComponentLink3Description: Package Specification; ComponentLink3URL: http://www.analog.com/static/imported-files/packages/PKG_PDF/MSOP%28RM%29/RM_8.pdf; ComponentLink4Description: Product URL; ComponentLink4URL: http://www.analog.com/en/digital-to-analog-converters/da-converters/ad5310/products/product.html
footprint RM-8_N (TSOP, 8-Leads, Body 3x3mm, Pitch 0.65mm, IPC Medium Density)
footprint RM-8_L (TSOP, 8-Leads, Body 3x3mm, Pitch 0.65mm, IPC High Density)
footprint RM-8_M (TSOP, 8-Leads, Body 3x3mm, Pitch 0.65mm, IPC Low Density)
pins: 1 VDD (power) "Power Supply Input. These parts can be operated from +2.5 V to +5.5 V and VDD should be decoupled to GND.", 2 NC "No Connect", 3 NC "No Connect", 4 VOUT (hiz) "Analog output voltage from DAC. The output amplifier has rail-to-rail operation", 5 ~{SYNC} (in) "Level Triggered Control Input (Active Low). This is the frame synchronization signal for the input data. When S\Y\N\C\ goes low, it enables the input shift register, and data is transferred in on the falling edges of the (See Datasheet)", 6 SCLK (in) "Serial Clock Input. Data is clocked into the input shift register on the falling edge of the serial clock input. Data can be transferred at rates of up to 30 MHz.", 7 DIN (in) "Serial Data Input. This device has a 16-bit shift register. Data is clocked into the register on the falling edge of the serial clock input.", 8 GND (power) "Ground reference point for all circuitry on the part."

## AD5310BRT-500RL7
designator U?
Single 10-Bit Rail-to-Rail Output Digital-to-Analog Converter, 2.7 to 5.5 V, 140 uA, -40 to +105 degC, RJ-6, Reel; Generic Part Number: AD5310; Manufacturer: Analog Devices; PartNumber: AD5310BRT-500RL7; # DAC Outputs: 1; Max V+: 5.5V; Op Pwr Diss: 1.25mW; Resolution (Bits): 10; Settling Time: 6µs; Single Supply: Yes; DatasheetVersion: Rev.A; PackageVersion: 121608-A; PackageReference: RJ-6; PackageDescription: 6-Lead Small Outline Transistor Package [SOT-23]; Supplier 1: Digi-Key; Supplier Part Number 1: AD5310BRT-500RL7-ND; Supplier 2: Newark; Supplier Part Number 2: 59K3890; Supplier 3: Mouser; Supplier Part Number 3: 584-AD5310BRT-500R7; Packing: Reel; RoHS: N; Mounting Technology: Surface Mount; Code_JEDEC: MO-178-AB; ComponentLink1Description: Manufacturer URL; ComponentLink1URL: http://www.analog.com/en/index.html; ComponentLink2Description: Datasheet; ComponentLink2URL: http://www.analog.com/static/imported-files/data_sheets/AD5310.pdf; ComponentLink3Description: Package Specification; ComponentLink3URL: http://www.analog.com/static/imported-files/packages/PKG_PDF/SOT-23(RJ)/RJ_6.pdf; ComponentLink4Description: Product URL; ComponentLink4URL: http://www.analog.com/en/digital-to-analog-converters/da-converters/ad5310/products/product.html
footprint RJ-6_N (SOT23, 6-Leads, Body 2.9x1.6mm, Pitch 0.95mm, Lead Span 2.8mm, IPC Medium Density)
footprint RJ-6_L (SOT23, 6-Leads, Body 2.9x1.6mm, Pitch 0.95mm, Lead Span 2.8mm, IPC High Density)
footprint RJ-6_M (SOT23, 6-Leads, Body 2.9x1.6mm, Pitch 0.95mm, Lead Span 2.8mm, IPC Low Density)
pins: 1 VOUT (hiz) "Analog output voltage from DAC. The output amplifier has rail-to-rail operation.", 2 GND (power) "Ground reference point for all circuitry on the part.", 3 VDD (power) "Power Supply Input. These parts can be operated from +2.5 V to +5.5 V and VDD should be decoupled to GND.", 4 DIN (in) "Serial Data Input. This device has a 16-bit shift register. Data is clocked into the register on the falling edge of the serial clock input.", 5 SCLK (in) "Serial Clock Input. Data is clocked into the input shift register on the falling edge of the serial clock input. Data can be transferred at rates up to 30 MHz.", 6 ~{SYNC} (in) "Level triggered control input (active low). This is the frame synchronization signal for the input data. When S\Y\N\C\ goes low, it enables the input shift register and data is transferred in on the falling edges of the (See Datasheet)"

## AD5310BRT-REEL7
designator U?
Single 10-Bit Rail-to-Rail Output Digital-to-Analog Converter, 2.7 to 5.5 V, 140 uA, -40 to +105 degC, RJ-6, Reel; Generic Part Number: AD5310; Manufacturer: Analog Devices; PartNumber: AD5310BRT-REEL7; # DAC Outputs: 1; Max V+: 5.5V; Op Pwr Diss: 1.25mW; Resolution (Bits): 10; Settling Time: 6µs; Single Supply: Yes; DatasheetVersion: Rev.A; PackageVersion: 121608-A; PackageReference: RJ-6; PackageDescription: 6-Lead Small Outline Transistor Package [SOT-23]; Supplier 1: Digi-Key; Supplier Part Number 1: AD5310BRT-REEL7TR-ND; Supplier 2: Digi-Key; Supplier Part Number 2: AD5310BRT-REEL7CT-ND; Supplier 3: Digi-Key; Supplier Part Number 3: AD5310BRT-REEL7DKR-ND; Supplier 4: Mouser; Supplier Part Number 4: 584-AD5310BRT-R7; Packing: Reel; RoHS: N; Mounting Technology: Surface Mount; Code_JEDEC: MO-178-AB; ComponentLink1Description: Manufacturer URL; ComponentLink1URL: http://www.analog.com/en/index.html; ComponentLink2Description: Datasheet; ComponentLink2URL: http://www.analog.com/static/imported-files/data_sheets/AD5310.pdf; ComponentLink3Description: Package Specification; ComponentLink3URL: http://www.analog.com/static/imported-files/packages/PKG_PDF/SOT-23(RJ)/RJ_6.pdf; ComponentLink4Description: Product URL; ComponentLink4URL: http://www.analog.com/en/digital-to-analog-converters/da-converters/ad5310/products/product.html
footprint RJ-6_N (SOT23, 6-Leads, Body 2.9x1.6mm, Pitch 0.95mm, Lead Span 2.8mm, IPC Medium Density)
footprint RJ-6_L (SOT23, 6-Leads, Body 2.9x1.6mm, Pitch 0.95mm, Lead Span 2.8mm, IPC High Density)
footprint RJ-6_M (SOT23, 6-Leads, Body 2.9x1.6mm, Pitch 0.95mm, Lead Span 2.8mm, IPC Low Density)
pins: 1 VOUT (hiz) "Analog output voltage from DAC. The output amplifier has rail-to-rail operation.", 2 GND (power) "Ground reference point for all circuitry on the part.", 3 VDD (power) "Power Supply Input. These parts can be operated from +2.5 V to +5.5 V and VDD should be decoupled to GND.", 4 DIN (in) "Serial Data Input. This device has a 16-bit shift register. Data is clocked into the register on the falling edge of the serial clock input.", 5 SCLK (in) "Serial Clock Input. Data is clocked into the input shift register on the falling edge of the serial clock input. Data can be transferred at rates up to 30 MHz.", 6 ~{SYNC} (in) "Level triggered control input (active low). This is the frame synchronization signal for the input data. When S\Y\N\C\ goes low, it enables the input shift register and data is transferred in on the falling edges of the (See Datasheet)"